# Altium schematic symbol library SL_Inductors.SchLib: 12 symbols
Pins are listed as number, name and electrical type; pins without a type are passive.

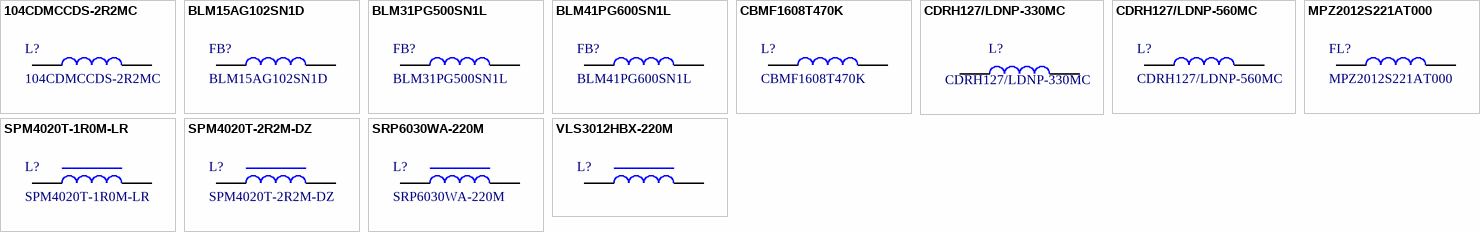
[diagram p0: symbols 104CDMCCDS-2R2MC to VLS3012HBX-220M]

## 104CDMCCDS-2R2MC
designator L?
Inductor, 2.2uH, 15A, 11.5x10; Manufacturer_Name: Sumida; Datasheet Link: https://products.sumida.com/products/pdf/104CDMCCDS.pdf; Height: 4.15mm; Manufacturer_Part_Number: 104CDMCCDS-2R2MC; Mouser Part Number: 851-104CDMCCDS-2R2MC; Mouser Price/Stock: https://www.mouser.co.uk/ProductDetail/Sumida/104CDMCCDS-2R2MC?qs=D3efs7kfDkVmz3GveR4JHw%3D%3D; Arrow Part Number: 104CDMCCDS-2R2MC; Arrow Price/Stock: https://www.arrow.com/en/products/104cdmccds-2r2mc/sumida.html?utm_currency=USD&region=nac
footprint INDPM115100X415N
pins: 1, 2

## BLM15AG102SN1D
designator FB?
EMI Filtr, 1 kOhm/650 mOhm, 200mA, 100 MHz; Manufacturer_Name: Murata Electronics; Manufacturer_Part_Number: BLM15AG102SN1J; Datasheet Link: http://www.murata.com/~/media/webrenewal/support/library/catalog/products/emc/emifil/c31e.ashx?la=en-gb; Height: 0.55mm
footprint NFZ15SG152SN10B
pins: 1, 2

## BLM31PG500SN1L
designator FB?
EMI Filtr, 50 Ohm/15 mOhm, 3.5A, 100 MHz; Manufacturer_Name: Murata Electronics; Datasheet Link: https://www.murata.com/en-us/products/productdetail?partno=BLM31PG500SN1%23; Height: 1.3mm; Manufacturer_Part_Number: BLM31PG500SN1L; Mouser Part Number: 81-BLM31P500S; Mouser Price/Stock: https://www.mouser.co.uk/ProductDetail/Murata-Electronics/BLM31PG500SN1L?qs=VMgHkCMUXU%252BcLr8Vf2o1sw%3D%3D; Arrow Part Number: BLM31PG500SN1L; Arrow Price/Stock: https://www.arrow.com/en/products/blm31pg500sn1l/murata-manufacturing?region=europe
footprint BLM31PG500SN1L
pins: 1, 2

## BLM41PG600SN1L
designator FB?
EMI Filtr, 60 Ohm/9 mOhm, 6A, 100 MHz; Manufacturer_Name: Murata Electronics; Datasheet Link: https://www.murata.com/en-us/products/productdetail?partno=BLM41PG600SN1%23; Height: 1.8mm; Manufacturer_Part_Number: BLM41PG600SN1L; Mouser Part Number: 81-BLM41P600S; Mouser Price/Stock: https://www.mouser.co.uk/ProductDetail/Murata-Electronics/BLM41PG600SN1L?qs=LbqjZSvnDsxPHP95riorNQ%3D%3D; Arrow Part Number: BLM41PG600SN1L; Arrow Price/Stock: https://www.arrow.com/en/products/blm41pg600sn1l/murata-manufacturing?utm_currency=USD&region=europe
footprint BLM41PG102SH1L
pins: 1, 2

## CBMF1608T470K
designator L?
Inductor, 47uH, 50mA; Manufacturer_Name: TAIYO YUDEN; Datasheet Link: https://datasheet.datasheetarchive.com/originals/distributors/Datasheets-DGA11/2187018.pdf; Height: 1mm; Manufacturer_Part_Number: CBMF1608T470K; Mouser Part Number: 963-CBMF1608T470K; Mouser Price/Stock: https://www.mouser.co.uk/ProductDetail/TAIYO-YUDEN/CBMF1608T470K?qs=I6KAKw0tg2yxeC10P%2FvqFg%3D%3D; Arrow Part Number: CBMF1608T470K; Arrow Price/Stock: https://www.arrow.com/en/products/cbmf1608t470k/taiyo-yuden
footprint INDC1608X100N
pins: 1, 2

## CDRH127/LDNP-330MC
designator L?
Inductor 33uH, 3.9A, 12x12x8; Manufacturer_Name: Sumida; Geometry.Height: 8mm; Manufacturer_Part_Number: CDRH127/LDNP-330MC; Mouser Part Number: 851-CDRH127LDNP330MC; Mouser Price/Stock: https://www.mouser.co.uk/ProductDetail/Sumida/CDRH127-LDNP-330MC?qs=rZntyWl5IYHj3wgmnQ0WOg%3D%3D; Arrow Part Number: CDRH127/LDNP-330MC; Arrow Price/Stock: https://www.arrow.com/en/products/cdrh127ldnp-330mc/sumida?utm_currency=USD&region=nac; Datasheet Link: https://products.sumida.com/products/pdf/CDRH127LD.pdf
footprint INDPM120120X800N
pins: 1, 2

## CDRH127/LDNP-560MC
designator L?
Inductor, 56uH, 2.35A, 12x12x8; Manufacturer_Name: Sumida; Datasheet Link: https://www.arrow.com/en/products/cdrh127ldnp-560mc/sumida; Height: 8mm; Manufacturer_Part_Number: CDRH127/LDNP-560MC; Mouser Part Number: 851-CDRH127LDNP560MC; Mouser Price/Stock: https://www.mouser.co.uk/ProductDetail/Sumida/CDRH127-LDNP-560MC?qs=IXCoV6m%252B579ap3iATSRauQ%3D%3D; Arrow Part Number: CDRH127/LDNP-560MC; Arrow Price/Stock: https://www.arrow.com/en/products/cdrh127ldnp-560mc/sumida?utm_currency=USD&region=nac
footprint CDRH127LDNP560MC
pins: 1, 2

## MPZ2012S221AT000
designator FL?
EMI Filtr, 220 Ohm/40 mOhm, 3A, 100 MHz; Manufacturer_Name: TDK; Datasheet Link: https://product.tdk.com/system/files/dam/doc/product/emc/emc/beads/catalog/beads_commercial_power_mpz2012_en.pdf; Height: 1.05mm; Manufacturer_Part_Number: MPZ2012S221AT000; Mouser Part Number: 810-MPZ2012S221AT000; Mouser Price/Stock: https://www.mouser.co.uk/ProductDetail/TDK/MPZ2012S221AT000?qs=pLY5GE0xrmJYuLs3YjLRbg%3D%3D; Arrow Part Number: MPZ2012S221AT000; Arrow Price/Stock: https://www.arrow.com/en/products/mpz2012s221at000/tdk?region=nac
footprint BEADC2012X105N
pins: 1, 2

## SPM4020T-1R0M-LR
designator L?
Inductor, 1uH, 9A, 4.4x4.1x2; Manufacturer_Name: TDK; Datasheet Link: https://product.tdk.com/system/files/dam/doc/product/inductor/inductor/smd/catalog/inductor_commercial_power_spm4020-lr_en.pdf; Manufacturer_Part_Number: SPM4020T-1R0M-LR; Mouser Part Number: 810-SPM4020T1R0MLR; Mouser Price/Stock: https://www.mouser.co.uk/ProductDetail/TDK/SPM4020T-1R0M-LR?qs=P8zzrVhehatVIJ7nt6npdg%3D%3D; Arrow Part Number: SPM4020T-1R0M-LR; Arrow Price/Stock: https://www.arrow.com/en/products/spm4020t-1r0m-lr/tdk?region=nac
footprint SPM4010-4020
pins: 1, 2

## SPM4020T-2R2M-DZ
designator L?
Inductor, 2.2uH, 3.1A, 4.3x4.1x2; Manufacturer_Name: TDK; Datasheet Link: https://product.tdk.com/system/files/dam/doc/product/inductor/inductor/smd/catalog/inductor_automotive_power_spm4020-dz_en.pdf; Height: 2mm; Manufacturer_Part_Number: SPM4020T-2R2M-DZ; Mouser Part Number: 810-SPM4020T-2R2M-DZ; Mouser Price/Stock: https://www.mouser.co.uk/ProductDetail/TDK/SPM4020T-2R2M-DZ?qs=pBJMDPsKWf3sIRJcXBnO5g%3D%3D; Arrow Part Number: SPM4020T-2R2M-DZ; Arrow Price/Stock: https://www.arrow.com/en/products/spm4020t-2r2m-dz/tdk?utm_currency=USD&region=nac
footprint SPM4020TR47MDZ
pins: 1, 2

## SRP6030WA-220M
designator L?
Inductor, 22uH, 2.9A, 7.1x6.6x2.8; Manufacturer_Name: Bourns; Datasheet Link: https://g.componentsearchengine.com/Datasheets/0/17601797.pdf; Height: 3mm; Manufacturer_Part_Number: SRP6030WA-220M; Mouser Part Number: 652-SRP6030WA-220M; Mouser Price/Stock: https://www.mouser.co.uk/ProductDetail/Bourns/SRP6030WA-220M?qs=9vOqFld9vZVz2reb4FvNWA%3D%3D
footprint INDPM7166X300N
pins: 1, 2

## VLS3012HBX-220M
designator L?  (value not drawn)
Inductor, 22uH, 1.12A, 3x3x1.2; Manufacturer_Name: TDK; Datasheet Link: https://product.tdk.com/system/files/dam/doc/product/inductor/inductor/smd/catalog/inductor_commercial_power_vls3012hbx_en.pdf; Manufacturer_Part_Number: VLS3012HBX-220M; Mouser Part Number: 810-VLS3012HBX-220M; Mouser Price/Stock: https://www.mouser.co.uk/ProductDetail/TDK/VLS3012HBX-220M?qs=pfd5qewlna6PjmR%252BRPDvXw%3D%3D; Arrow Part Number: VLS3012HBX-220M; Arrow Price/Stock: https://www.arrow.com/en/products/vls3012hbx-220m/tdk?utm_currency=USD&region=nac
footprint VLS3012
pins: 1, 2